# EAGLE library part LTC3216 (library PowerProducts)
LT-Spice library generated with : ltspice.ulp from: D:/Program Files (x86)/LTC/LTspiceIV/lib/sym/PowerProducts/LTC3217*.asy at 07.10.2012 17:52:43
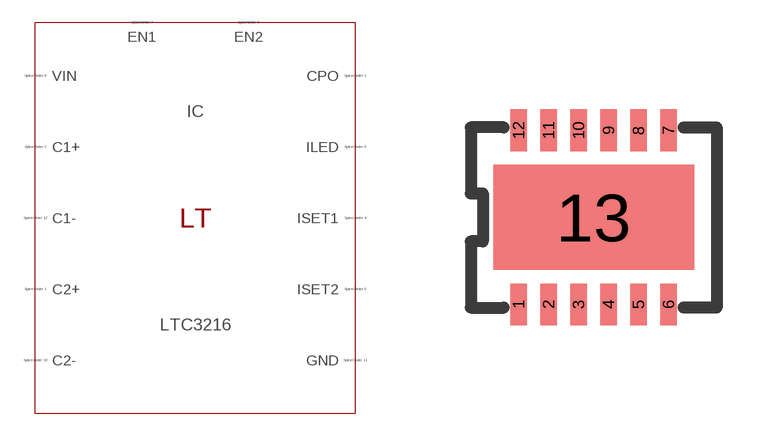
[diagram p141: symbol with the pads of DFN12(DE); footprint DFN12(DE)]

Designator prefix IC

## LTC3216 (SPICEMODEL: LTC3216.sub; SPICEPREFIX: X; VALUE2: LTC3216)  [DFN12(DE)]
1  C2+  pas
2  C1+  pas
3  CPO  pas
4  ISET1  pas
5  ILED  pas
6  ISET2  pas
7  EN1  pas
8  EN2  pas
9  VIN  pas
10  C2-  pas
11  GND  pas
12  C1-  pas
13  GND  pas

## Footprint DFN12(DE) (pad centres in mm)
Package generated from: DFN12(DE).asc (!PADS-POWERPCB-V5.0-BASIC! DESIGN DATABASE ASCII FILE 1.0) with :import-pads-powerpcb-v5.ulp Version 1.0.1 at 04.10.2012 14:11:16
smd 0.42 x 1.05: 1 -1.875,-2.175; 2 -1.125,-2.175; 3 -0.375,-2.175; 4 0.375,-2.175; 5 1.125,-2.175; 6 1.875,-2.175; 7 1.875,2.175; 8 1.125,2.175; 9 0.375,2.175; 10 -0.375,2.175; 11 -1.125,2.175; 12 -1.875,2.175
smd 5.025 x 2.625: 13 0,0